# EAGLE library part MOUDLE-SEEEDUINO-XIAO-ESP32C3 (library FaBo-MPU)
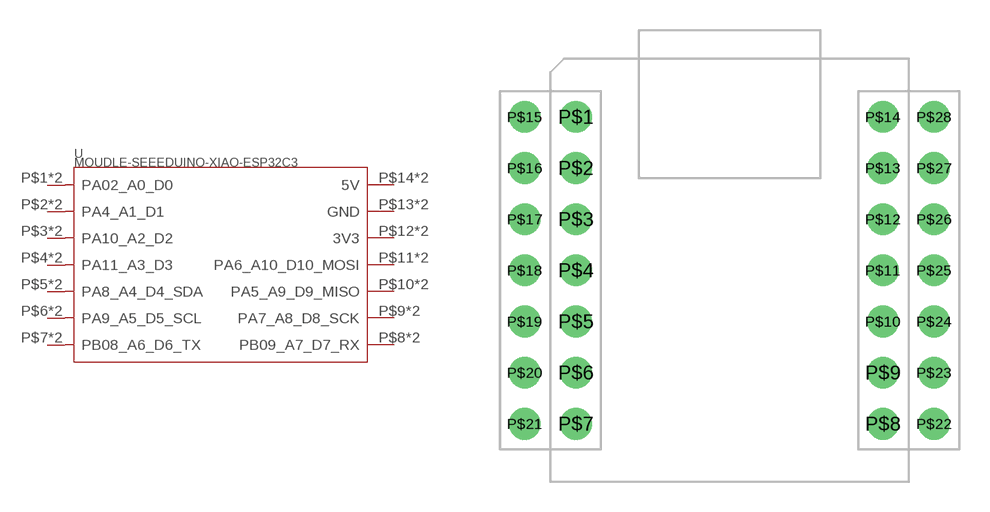
[diagram p13: symbol with the pads of MOUDLE14P-DIP; footprint MOUDLE14P-DIP]

Designator prefix U

## MOUDLE-SEEEDUINO-XIAO-ESP32C3  [MOUDLE14P-DIP]
P$1  PA02_A0_D0
P$2  PA4_A1_D1
P$3  PA10_A2_D2
P$4  PA11_A3_D3
P$5  PA8_A4_D4_SDA
P$6  PA9_A5_D5_SCL
P$7  PB08_A6_D6_TX
P$8  PB09_A7_D7_RX
P$9  PA7_A8_D8_SCK
P$10  PA5_A9_D9_MISO
P$11  PA6_A10_D10_MOSI
P$12  3V3
P$13  GND
P$14  5V
P$15  PA02_A0_D0
P$16  PA4_A1_D1
P$17  PA10_A2_D2
P$18  PA11_A3_D3
P$19  PA8_A4_D4_SDA
P$20  PA9_A5_D5_SCL
P$21  PB08_A6_D6_TX
P$22  PB09_A7_D7_RX
P$23  PA7_A8_D8_SCK
P$24  PA5_A9_D9_MISO
P$25  PA6_A10_D10_MOSI
P$26  3V3
P$27  GND
P$28  5V

## Footprint MOUDLE14P-DIP (pad centres in mm)
drill 1.05: P$1 1.27,18.12; P$2 1.27,15.58; P$3 1.27,13.04; P$4 1.27,10.5; P$5 1.27,7.96; P$6 1.27,5.42; P$7 1.27,2.88; P$8 16.51,2.88; P$9 16.51,5.42; P$10 16.51,7.96; P$11 16.51,10.5; P$12 16.51,13.04; P$13 16.51,15.58; P$14 16.51,18.12; P$15 -1.27,18.12; P$16 -1.27,15.58; P$17 -1.27,13.04; P$18 -1.27,10.5; P$19 -1.27,7.96; P$20 -1.27,5.42; P$21 -1.27,2.88; P$22 19.05,2.88; P$23 19.05,5.42; P$24 19.05,7.96; P$25 19.05,10.5; P$26 19.05,13.04; P$27 19.05,15.58; P$28 19.05,18.12